# Altium schematic symbol library COIN_MOTOR.SchLib: 1 symbol
Pins are listed as number, name and electrical type; pins without a type are passive.

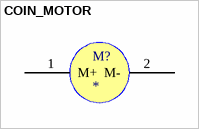
[diagram p0: symbol COIN_MOTOR]

## COIN_MOTOR
designator M?
pins: 1 M+, 2 M-